# EAGLE library part CH32V307RCT6 (library wch32v307_v6)
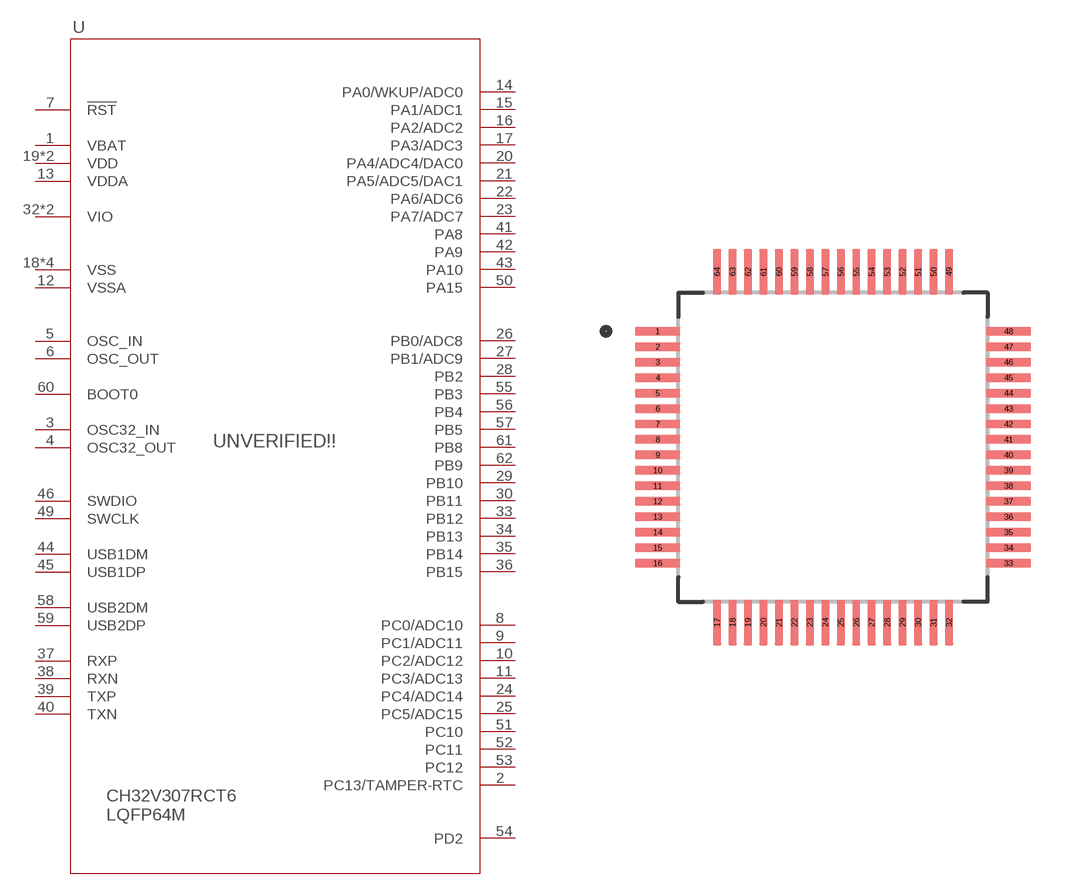
[diagram p0: symbol with the pads of LQFP64M; footprint LQFP64M]

Designator prefix -

## CH32V307RCT6  [LQFP64M]
1  VBAT
2  PC13/TAMPER-RTC
3  OSC32_IN
4  OSC32_OUT
5  OSC_IN
6  OSC_OUT
7  !RST
8  PC0/ADC10
9  PC1/ADC11
10  PC2/ADC12
11  PC3/ADC13
12  VSSA
13  VDDA
14  PA0/WKUP/ADC0
15  PA1/ADC1
16  PA2/ADC2
17  PA3/ADC3
18  VSS
19  VDD
20  PA4/ADC4/DAC0
21  PA5/ADC5/DAC1
22  PA6/ADC6
23  PA7/ADC7
24  PC4/ADC14
25  PC5/ADC15
26  PB0/ADC8
27  PB1/ADC9
28  PB2
29  PB10
30  PB11
31  VSS
32  VIO
33  PB12
34  PB13
35  PB14
36  PB15
37  RXP
38  RXN
39  TXP
40  TXN
41  PA8
42  PA9
43  PA10
44  USB1DM
45  USB1DP
46  SWDIO
47  VSS
48  VDD
49  SWCLK
50  PA15
51  PC10
52  PC11
53  PC12
54  PD2
55  PB3
56  PB4
57  PB5
58  USB2DM
59  USB2DP
60  BOOT0
61  PB8
62  PB9
63  VSS
64  VIO

## Footprint LQFP64M (pad centres in mm)
smd 1.47 x 0.28: 1 -5.67,3.75; 2 -5.67,3.25; 3 -5.67,2.75; 4 -5.67,2.25; 5 -5.67,1.75; 6 -5.67,1.25; 7 -5.67,0.75; 8 -5.67,0.25; 9 -5.67,-0.25; 10 -5.67,-0.75; 11 -5.67,-1.25; 12 -5.67,-1.75; 13 -5.67,-2.25; 14 -5.67,-2.75; 15 -5.67,-3.25; 16 -5.67,-3.75; 33 5.67,-3.75; 34 5.67,-3.25; 35 5.67,-2.75; 36 5.67,-2.25; 37 5.67,-1.75; 38 5.67,-1.25; 39 5.67,-0.75; 40 5.67,-0.25; 41 5.67,0.25; 42 5.67,0.75; 43 5.67,1.25; 44 5.67,1.75; 45 5.67,2.25; 46 5.67,2.75; 47 5.67,3.25; 48 5.67,3.75
smd 0.28 x 1.47: 17 -3.75,-5.67; 18 -3.25,-5.67; 19 -2.75,-5.67; 20 -2.25,-5.67; 21 -1.75,-5.67; 22 -1.25,-5.67; 23 -0.75,-5.67; 24 -0.25,-5.67; 25 0.25,-5.67; 26 0.75,-5.67; 27 1.25,-5.67; 28 1.75,-5.67; 29 2.25,-5.67; 30 2.75,-5.67; 31 3.25,-5.67; 32 3.75,-5.67; 49 3.75,5.67; 50 3.25,5.67; 51 2.75,5.67; 52 2.25,5.67; 53 1.75,5.67; 54 1.25,5.67; 55 0.75,5.67; 56 0.25,5.67; 57 -0.25,5.67; 58 -0.75,5.67; 59 -1.25,5.67; 60 -1.75,5.67; 61 -2.25,5.67; 62 -2.75,5.67; 63 -3.25,5.67; 64 -3.75,5.67